# EAGLE library part SKY13322-375LF (library skyworks)
RF SWITCH SP4T 20 MHz-6.0 GHz GaAs
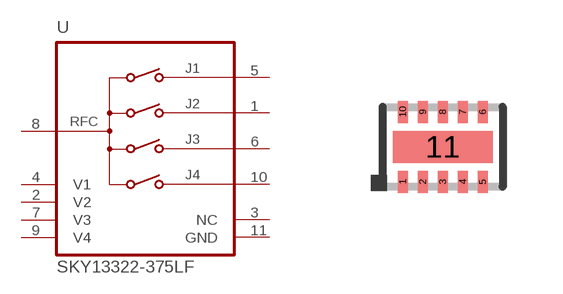
[diagram p1: symbol with the pads of MLPD10; footprint MLPD10]

Designator prefix U

## SKY13322-375LF  [MLPD10]
1  J2
2  V2  in
3  NC  nc
4  V1  in
5  J1
6  J3
7  V3  in
8  RFC
9  V4  in
10  J4
11  GND  in

## Footprint MLPD10 (pad centres in mm)
MLPD-10
smd 0.25 x 0.55: 1 -1,-0.875; 2 -0.5,-0.875; 3 0,-0.875; 4 0.5,-0.875; 5 1,-0.875; 6 1,0.875; 7 0.5,0.875; 8 0,0.875; 9 -0.5,0.875; 10 -1,0.875
smd 2.5 x 0.8: 11 0,0